# Altium footprint library Relay.PcbLib: 3 footprints
Each footprint in its own frame and in the unit in brackets; x right, y up, seen from the top. Pads: shape width x height; smd on the part's side, far side on the other; paste and mask are expansions set on the pad; w line width, h text height; cw(c..) or ccw(c..) is an arc to the next point about the centre after c.
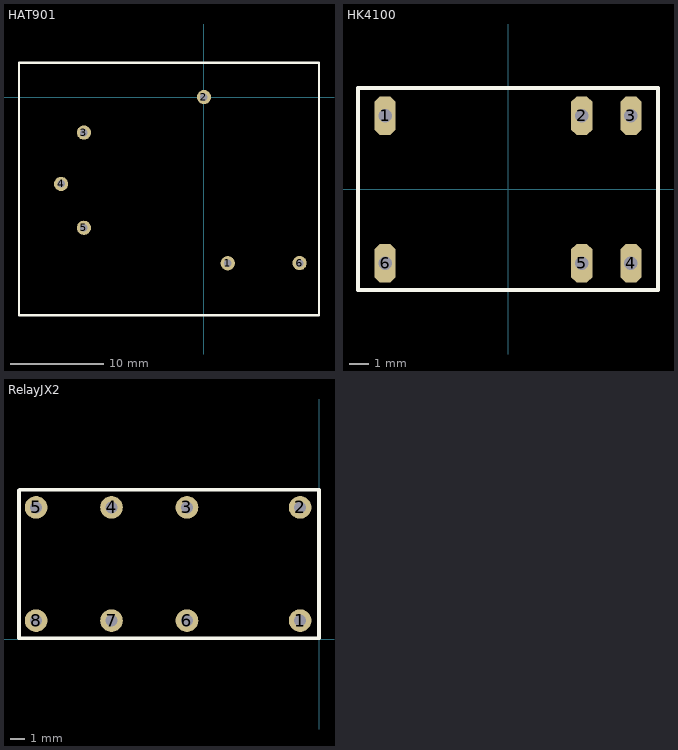
[diagram p0: the footprints below, top view; thin cyan lines are the x and y axes]

## HAT901 [mm]
pads (6):
  round 1.524 hole 0.8: 1(2.54,-17.8) 2(0,0) 3(-12.86,-3.8) 4(-15.3,-9.3) 5(-12.86,-14) 6(10.24,-17.78)
Top Overlay:
  lines w0.254: -19.812,-23.368 -19.812,3.683 12.319,3.683 12.319,-23.368 -19.812,-23.368
3D body "RELAY-RT1-24-30-A.STEP": height 20.2, standoff -2.8, extent -19.685,-23.279 12.315,3.721

## HK4100 [mm]
pads (6):
  oct 1.1x2 hole 0.7: 1(-6.35,3.81) 2(3.81,3.81) 3(6.35,3.81) 4(6.35,-3.81) 5(3.81,-3.81) 6(-6.35,-3.81)
Top Overlay:
  lines w0.203: -7.75,0 -7.75,5.25 7.75,5.25 ; -7.75,0.043 -7.75,-5.207 7.75,-5.207 ; 7.75,-5.204 7.75,0 7.75,5.247
3D body "RelayTRBS.STEP": height 11.5, standoff -3.3, extent -7.752,-5.566 7.752,5.536

## RelayJX2 [mil]
pads (8):
  round 60 hole 31.5: 1(-50,50) 2(-50,350) 3(-350,350) 4(-550,350) 5(-750,350) 6(-350,50) 7(-550,50) 8(-750,50)
Top Overlay:
  lines w10: -795.28,3.15 0,3.15 0,396.85 -793.15,396.85 -795,395 -795,5
3D body "RelayJX2.step": height 482.28, standoff -129.92, extent -793.7,7.08 -6.3,392.91